# EAGLE library part ADP-2-1W (library minicircuits1)
Power Splitter/Combiner 2 Way-0° 50 R Aqueous washable. For non-aquesous requirements, LRPS units available in case style QQQ130 Internal load dissipation: 0.125 Watt Matched power rating: 2 Watt Non-hermetic ADP-2-1W 2 Way-0° Frequency MHz Isolation, dB Insertion Loss, dB Above 3.0dB Phase Unbalance Degrees Amplitude Unbalance, dB Power Input, W fL - fU L Typ. Min. M Typ. Min. U Typ. Min. L Typ. Max. M Typ. Max. U Typ. Max. L Max. M Max. U Max. L Max. M Max. U Max. as Combiner Max. as Splitter Max. 1.00-650 30 20 30 20 24 20 0.20 0.80 0.25 0.80 0.50 1.00 2.00 2.00 3.00 0.15 0.20 0.30 2.00 L=low range(fL to 10fL) M=mid range(10fL to fU/2) U=upper range(fU/2 to fU) FREQ (MHz) Insertion Loss Amplitude Unbalance (dB) Isolation Phase Unbalance (Degrees) FREQ (MHz) VSWR S VSWR 1 VSWR 2 (dB) S-1 (dB) S-2 (dB) 1-2 1.000 3.33 3.33 0.000 29.22 0.03 1.000 1.08 1.26 1.26 2.000 3.28 3.28 0.000 34.72 0.02 2.00 1.08 1.21 1.21 3.000 3.23 3.24 0.000 38.79 0.04 3.00 1.09 1.18 1.18 4.000 3.21 3.21 0.000 42.13 0.02 4.00 1.09 1.17 1.17 5.000 3.19 3.19 0.000 45.00 0.02 5.00 1.10 1.16 1.16 6.000 3.18 3.18 0.000 47.73 0.04 6.00 1.10 1.16 1.16 7.000 3.18 3.18 0.000 50.17 0.02 7.00 1.10 1.15 1.15 8.000 3.17 3.18 0.010 52.22 0.01 8.00 1.10 1.15 1.15 9.000 3.17 3.16 0.010 53.98 0.02 9.00 1.11 1.15 1.15 10.00 3.17 3.16 0.010 54.92 0.01 10.00 1.11 1.15 1.15 20.00 3.17 3.18 0.000 48.20 0.02 20.00 1.11 1.15 1.15 30.00 3.18 3.17 0.010 44.81 0.03 30.00 1.11 1.15 1.15 40.00 3.19 3.19 0.000 42.45 0.01 40.00 1.10 1.15 1.15 50.00 3.20 3.20 0.000 40.83 0.03 50.00 1.11 1.15 1.15 60.00 3.21 3.21 0.000 39.19 0.01 60.00 1.13 1.15 1.15 70.00 3.22 3.22 0.000 37.91 0.05 70.00 1.13 1.15 1.15 80.00 3.21 3.20 0.010 36.96 0.01 80.00 1.12 1.14 1.15 90.00 3.22 3.22 0.000 36.18 0.00 90.00 1.11 1.14 1.15 100.00 3.23 3.24 0.010 35.73 0.01 100.00 1.12 1.14 1.14 125.00 3.26 3.25 0.020 34.54 0.06 125.00 1.13 1.14 1.14 150.00 3.26 3.25 0.010 32.49 0.12 150.00 1.14 1.14 1.15 175.00 3.29 3.28 0.010 30.44 0.00 175.00 1.15 1.14 1.14 200.00 3.31 3.28 0.030 29.34 0.09 200.00 1.17 1.14 1.13 225.00 3.32 3.31 0.010 29.16 0.13 225.00 1.16 1.14 1.12 250.00 3.33 3.32 0.020 29.13 0.06 250.00 1.18 1.14 1.13 275.00 3.35 3.33 0.020 28.46 0.16 275.00 1.16 1.15 1.14 300.00 3.37 3.35 0.020 27.54 0.17 300.00 1.16 1.15 1.15 325.00 3.39 3.36 0.030 26.99 0.18 325.00 1.19 1.15 1.14 350.00 3.40 3.36 0.040 26.57 0.09 350.00 1.18 1.14 1.14 400.00 3.44 3.40 0.040 25.58 0.13 400.00 1.19 1.15 1.14 425.00 3.47 3.42 0.050 25.55 0.28 425.00 1.22 1.15 1.13 450.00 3.48 3.44 0.040 25.69 0.31 450.00 1.21 1.16 1.14 475.00 3.51 3.44 0.070 25.55 0.30 475.00 1.23 1.17 1.16 500.00 3.53 3.46 0.070 25.13 0.34 500.00 1.23 1.17 1.16 525.00 3.56 3.49 0.070 25.05 0.30 525.00 1.23 1.17 1.16 550.00 3.57 3.48 0.100 25.37 0.46 550.00 1.24 1.17 1.15 575.00 3.59 3.50 0.090 25.75 0.30 575.00 1.25 1.18 1.15 600.00 3.63 3.55 0.090 25.74 0.49 600.00 1.24 1.20 1.15 625.00 3.68 3.54 0.140 25.60 0.47 625.00 1.23 1.22 1.16 650.00 3.72 3.58 0.140 25.51 0.52 650.00 1.26 1.23 1.18
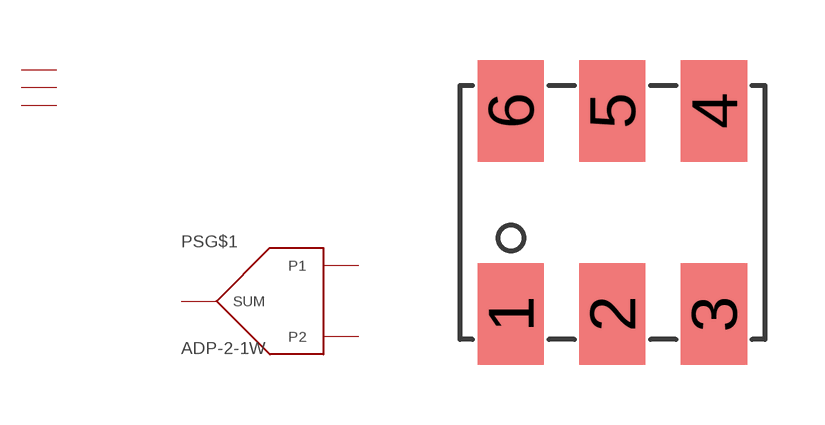
[diagram p14: symbol with the pads of CD636; footprint CD636]

Designator prefix PS; gates G$1=POWER_SPLITTER-2W G$2=GND G$3=NC G$4=NC

## ADP-2-1W  [CD636]
1  G$1:SUM
2  G$4:NC  nc
3  G$1:P1
4  G$1:P2
5  G$3:NC  nc
6  G$2:GND  pwr

## Footprint CD636 (pad centres in mm)
CD636 http://www.minicircuits.com/cgi-bin/inquery.cgi?querystring=CD636&searchtype=case&x=21&y=7
smd 1.651 x 2.54: 1 0,0; 2 2.54,0; 3 5.08,0; 4 5.08,5.08; 5 2.54,5.08; 6 0,5.08